# EAGLE library part LPC1114FBD48/301/302 (library nxp_60)
LPC1114 50 MHz 32-bit ARM Cortex-M0 based microcontroller featuring a high level of integration and very low power consumption. On-chip flash program memory The LPC1110/11/12/13/14 contain 32 kB (LPC1114), 24 kB (LPC1113), 16 kB (LPC1112), 8 kB (LPC1111),or 4 kB (LPC1110) of on-chip flash memory. On-chip SRAM The LPC1110/11/12/13/14 contain a total of 8 kB, 4 kB, 2 kB, or 1 kB on-chip static RAM memory. MK - Datasheet available on www.nxp.com
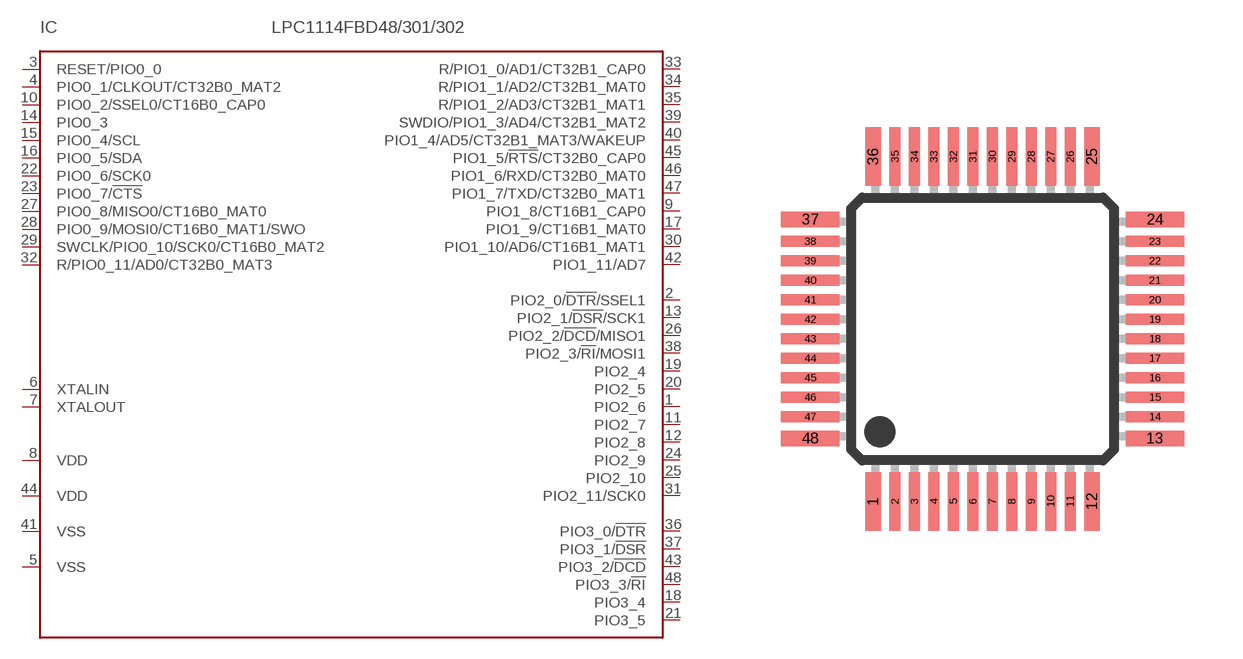
[diagram p9: symbol with the pads of SOT313-2; footprint SOT313-2]

Designator prefix IC

## LPC1114FBD48/301/302  [SOT313-2]
1  PIO2_6
2  PIO2_0/!DTR!/SSEL1
3  RESET/PIO0_0
4  PIO0_1/CLKOUT/CT32B0_MAT2
5  VSS  pwr
6  XTALIN  in
7  XTALOUT  out
8  VDD  pwr
9  PIO1_8/CT16B1_CAP0
10  PIO0_2/SSEL0/CT16B0_CAP0
11  PIO2_7
12  PIO2_8
13  PIO2_1/!DSR!/SCK1
14  PIO0_3
15  PIO0_4/SCL
16  PIO0_5/SDA
17  PIO1_9/CT16B1_MAT0
18  PIO3_4
19  PIO2_4
20  PIO2_5
21  PIO3_5
22  PIO0_6/SCK0
23  PIO0_7/!CTS!
24  PIO2_9
25  PIO2_10
26  PIO2_2/!DCD!/MISO1
27  PIO0_8/MISO0/CT16B0_MAT0
28  PIO0_9/MOSI0/CT16B0_MAT1/SWO
29  SWCLK/PIO0_10/SCK0/CT16B0_MAT2
30  PIO1_10/AD6/CT16B1_MAT1
31  PIO2_11/SCK0
32  R/PIO0_11/AD0/CT32B0_MAT3
33  R/PIO1_0/AD1/CT32B1_CAP0
34  R/PIO1_1/AD2/CT32B1_MAT0
35  R/PIO1_2/AD3/CT32B1_MAT1
36  PIO3_0/!DTR!
37  PIO3_1/!DSR!
38  PIO2_3/!RI!/MOSI1
39  SWDIO/PIO1_3/AD4/CT32B1_MAT2
40  PIO1_4/AD5/CT32B1_MAT3/WAKEUP
41  VSS  pwr
42  PIO1_11/AD7
43  PIO3_2/!DCD!
44  VDD  pwr
45  PIO1_5/!RTS!/CT32B0_CAP0
46  PIO1_6/RXD/CT32B0_MAT0
47  PIO1_7/TXD/CT32B0_MAT1
48  PIO3_3/!RI!

## Footprint SOT313-2 (pad centres in mm)
SOT313-2 LQFP48: plastic low profile quad flat package; 48 leads; body 7 x 7 x 1.4 mm JEDEC: MS-026 IEC: 136E05 Footprint according to NXP SOT313-2 specification, however the cornerpins are 0.4mm in stead of 0.5mm. Probably an error in the specification.
smd 0.4 x 1.5: 1 -2.81,-4.425; 12 2.81,-4.425; 25 2.81,4.425; 36 -2.81,4.425
smd 0.28 x 1.5: 2 -2.25,-4.425; 3 -1.75,-4.425; 4 -1.25,-4.425; 5 -0.75,-4.425; 6 -0.25,-4.425; 7 0.25,-4.425; 8 0.75,-4.425; 9 1.25,-4.425; 10 1.75,-4.425; 11 2.25,-4.425; 26 2.25,4.425; 27 1.75,4.425; 28 1.25,4.425; 29 0.75,4.425; 30 0.25,4.425; 31 -0.25,4.425; 32 -0.75,4.425; 33 -1.25,4.425; 34 -1.75,4.425; 35 -2.25,4.425
smd 1.5 x 0.4: 13 4.425,-2.81; 24 4.425,2.81; 37 -4.425,2.81; 48 -4.425,-2.81
smd 1.5 x 0.28: 14 4.425,-2.25; 15 4.425,-1.75; 16 4.425,-1.25; 17 4.425,-0.75; 18 4.425,-0.25; 19 4.425,0.25; 20 4.425,0.75; 21 4.425,1.25; 22 4.425,1.75; 23 4.425,2.25; 38 -4.425,2.25; 39 -4.425,1.75; 40 -4.425,1.25; 41 -4.425,0.75; 42 -4.425,0.25; 43 -4.425,-0.25; 44 -4.425,-0.75; 45 -4.425,-1.25; 46 -4.425,-1.75; 47 -4.425,-2.25